# Altium footprint library AltiumWorkshopBasic.PcbLib: 15 footprints
Each footprint in its own frame and in the unit in brackets; x right, y up, seen from the top. Pads: shape width x height; smd on the part's side, far side on the other; paste and mask are expansions set on the pad; w line width, h text height; cw(c..) or ccw(c..) is an arc to the next point about the centre after c.
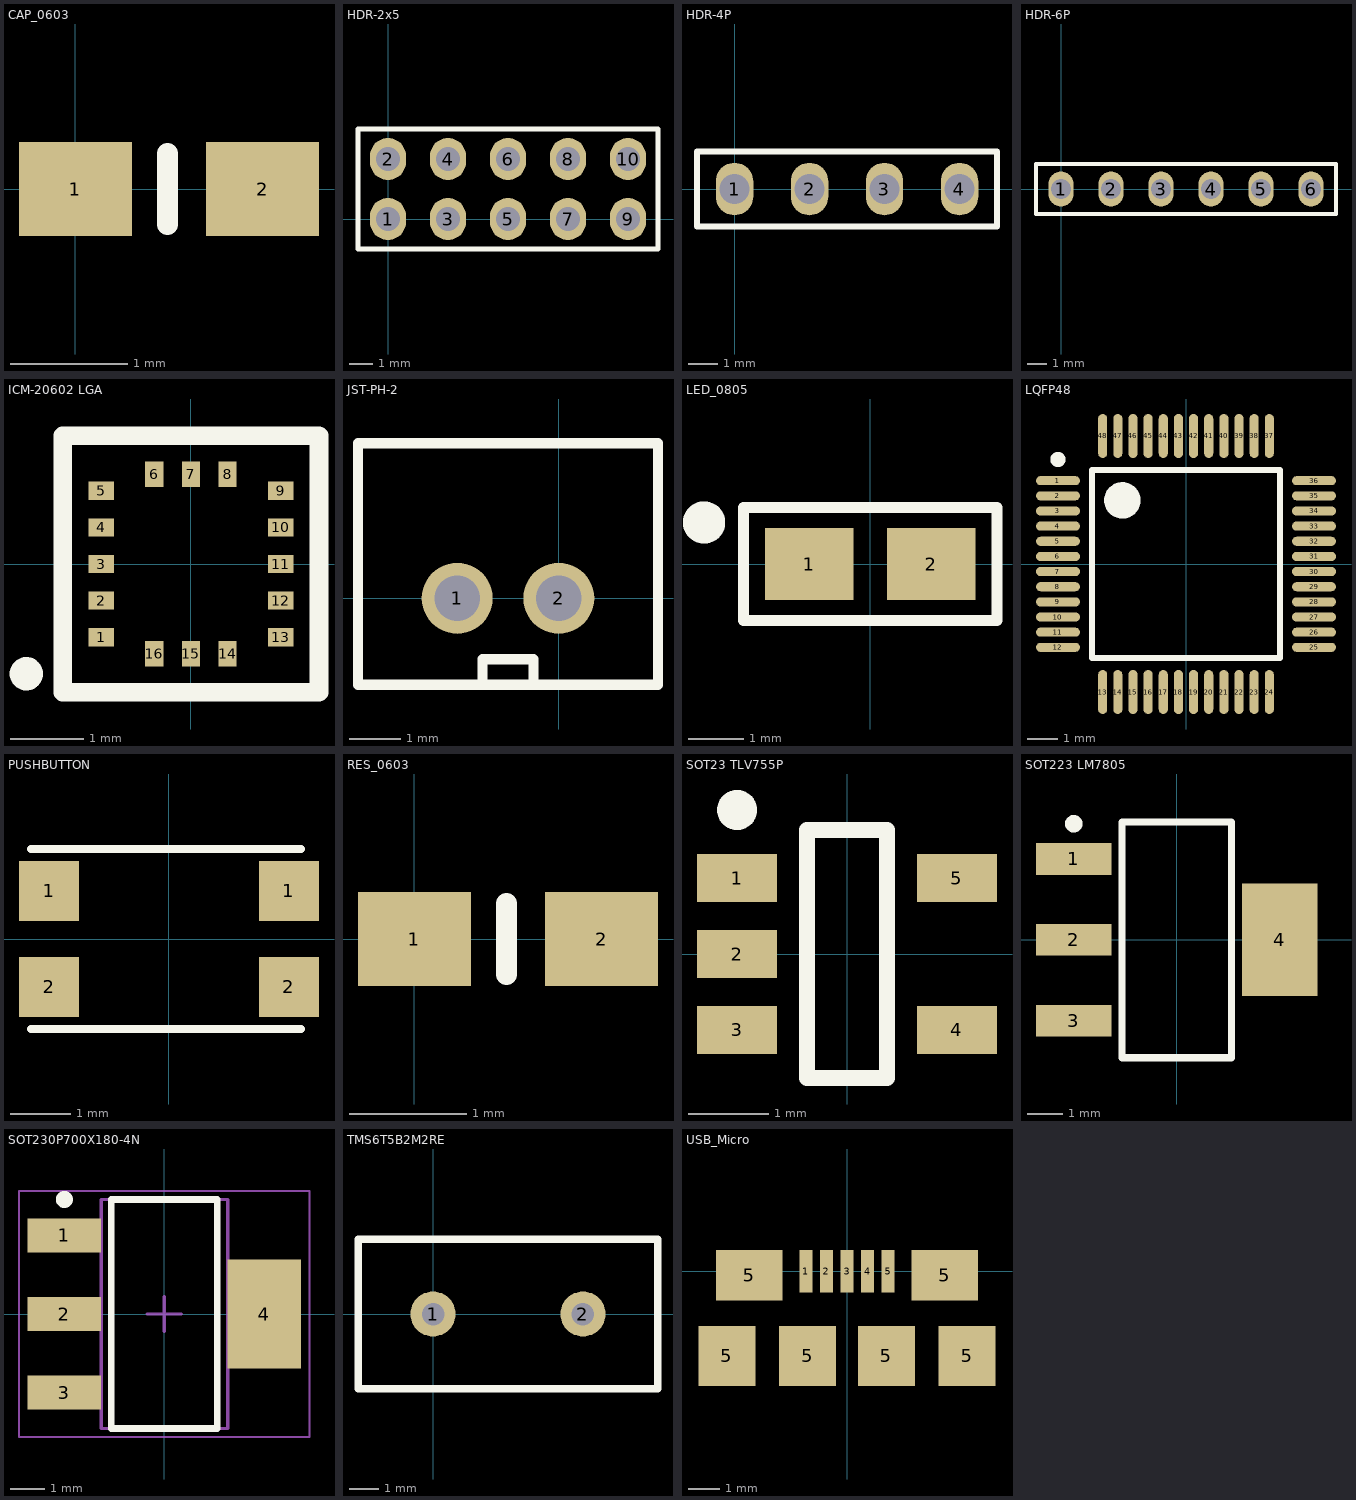
[diagram p0: the footprints below, top view; thin cyan lines are the x and y axes]

## CAP_0603 [mil]
pads (2):
  rect 38x31.5 smd: 1(0,0) 2(63,0)
Top Overlay:
  lines w7: 31,-12 31,12
3D body: height 25, standoff 0, extent 54.13,-15.75 64.96,15.75
3D body: height 25, standoff 0, extent -2.95,-15.75 7.87,15.75
3D body: height 25, standoff 0, extent 7.87,-15.75 54.13,15.75

## HDR-2x5 [mil]
pads (10):
  oval 60x70 hole 40: 1(0,0) 2(0,100) 3(100,0) 4(100,100) 5(200,0) 6(200,100) 7(300,0) 8(300,100) 9(400,0) 10(400,100)
Top Overlay:
  lines w8: -50,-50 450,-50 450,150 -50,150 -50,-50

## HDR-4P [mil]
pads (4):
  oval 50x70 hole 40: 1(0,0) 2(100,0) 3(200,0) 4(300,0)
Top Overlay:
  lines w8: -50,-50 350,-50 350,50 -50,50 -50,-50

## HDR-6P [mil]
pads (6):
  oval 50x70 hole 40: 1(0,0) 2(100,0) 3(200,0) 4(300,0) 5(400,0) 6(500,0)
Top Overlay:
  lines w8: -50,-50 -50,50 550,50 550,-50 -50,-50

## ICM-20602 LGA [mm] "LGA for ICM-20602"
height 0.75
pads (16):
  rect 0.35x0.25 smd: 1(-1.225,-1) 2(-1.225,-0.5) 3(-1.225,0) 4(-1.225,0.5) 5(-1.225,1) 9(1.225,1) 10(1.225,0.5) 11(1.225,0) 12(1.225,-0.5) 13(1.225,-1)
  rect 0.25x0.35 smd: 6(-0.5,1.225) 7(0,1.225) 8(0.5,1.225) 14(0.5,-1.225) 15(0,-1.225) 16(-0.5,-1.225)
Top Overlay:
  circle w0.254: c-2.25,-1.5 r0.1
  lines w0.254: -1.75,-1.75 1.25,-1.75 1.75,-1.75 1.75,1.75 -1.75,1.75 -1.75,-1.75

## JST-PH-2 [mil] "JST 2 Pin Connector"
pads (2):
  round 55 hole 35: 1(-78.74,0) 2(0,0)
Top Overlay:
  lines w8: -59.06,-66.93 -59.06,-47.24 -27.56,-47.24 -19.68,-47.24 -19.68,-66.93 ; -155.51,-66.93 -155.51,120 76.77,120 76.77,-66.93 -155.51,-66.93
3D body "JST - PH - Thru (V) - 2Pin - 2.00mm.stp": height 232, standoff -120, extent -155.37,-66.92 75.37,117.08

## LED_0805 [mm]
pads (2):
  rect 1.6x1.3 smd: 1(-1.1,0) 2(1.1,0)
Top Overlay:
  circle w0.508: c-3,0.75 r0.127
  lines w0.2: -2.286,-1.016 2.286,-1.016 2.286,1.016 -2.286,1.016 -2.286,-1.016
3D body: height 0.5, standoff 0, extent -1.05,-0.65 -0.65,0.65
3D body: height 0.5, standoff 0, extent 0.65,-0.65 1.05,0.65
3D body: height 0.5, standoff 0, extent -0.65,-0.65 0.65,0.65

## LQFP48 [mm] "STM32 F103CxTx LQFP48"
height 1.6
pads (48):
  oval 1.45x0.3 smd: 1(-4.225,2.75) 2(-4.225,2.25) 3(-4.225,1.75) 4(-4.225,1.25) 5(-4.225,0.75) 6(-4.225,0.25) 7(-4.225,-0.25) 8(-4.225,-0.75) 9(-4.225,-1.25) 10(-4.225,-1.75) 11(-4.225,-2.25) 12(-4.225,-2.75) 25(4.225,-2.75) 26(4.225,-2.25) 27(4.225,-1.75) 28(4.225,-1.25) 29(4.225,-0.75) 30(4.225,-0.25) 31(4.225,0.25) 32(4.225,0.75) 33(4.225,1.25) 34(4.225,1.75) 35(4.225,2.25) 36(4.225,2.75)
  oval 0.3x1.45 smd: 13(-2.75,-4.225) 14(-2.25,-4.225) 15(-1.75,-4.225) 16(-1.25,-4.225) 17(-0.75,-4.225) 18(-0.25,-4.225) 19(0.25,-4.225) 20(0.75,-4.225) 21(1.25,-4.225) 22(1.75,-4.225) 23(2.25,-4.225) 24(2.75,-4.225) 37(2.75,4.225) 38(2.25,4.225) 39(1.75,4.225) 40(1.25,4.225) 41(0.75,4.225) 42(0.25,4.225) 43(-0.25,4.225) 44(-0.75,4.225) 45(-1.25,4.225) 46(-1.75,4.225) 47(-2.25,4.225) 48(-2.75,4.225)
Top Overlay:
  circle w0.6: c-2.1,2.1 r0.3
  circle w0.25: c-4.225,3.45 r0.125
  lines w0.2: -3.1,-3.1 3.1,-3.1 3.1,3.1 -3.1,3.1 -3.1,-3.1
3D body "LQFP48.step": height 1.6, standoff 0, extent -4.5,-4.5 4.5,4.5

## PUSHBUTTON [mm] "C&K KMR7"
pads (4):
  rect 1x1 smd: 1(-2,0.8) 1(2,0.8) 2(-2,-0.8) 2(2,-0.8)
Top Overlay:
  lines w0.127: -2.3,-1.5 2.2,-1.5 ; -2.3,1.5 2.2,1.5

## RES_0603 [mil]
pads (2):
  rect 38x31.5 smd: 1(0,0) 2(63,0)
Top Overlay:
  lines w7: 31,-12 31,12
3D body: height 15, standoff 0, extent 7.87,-15.75 54.13,15.75
3D body: height 15, standoff 0, extent -2.95,-15.75 7.87,15.75
3D body: height 15, standoff 0, extent 54.13,-15.75 64.96,15.75

## SOT23 TLV755P [mm] "5-Lead SOT23 for TLV755P"
height 1.45
pads (5):
  rect 1x0.6 smd: 1(-1.375,0.95) 2(-1.375,0) 3(-1.375,-0.95) 4(1.375,-0.95) 5(1.375,0.95)
Top Overlay:
  circle w0.25: c-1.375,1.8 r0.125
  lines w0.2: -0.5,-1.55 0.5,-1.55 0.5,1.55 -0.5,1.55 -0.5,-1.55
3D body "SOT23 TLV755P.step": height 1.45, standoff 0, extent -1.5,-1.525 1.5,1.525

## SOT223 LM7805 [mm] "SOT223, 4-Leads, LM7805"
height 1.8
pads (4):
  rect 2.15x0.9 smd: 1(-2.925,2.3) 2(-2.925,0) 3(-2.925,-2.3)
  rect 2.15x3.2 smd: 4(2.925,0)
Top Overlay:
  circle w0.25: c-2.925,3.3 r0.125
  lines w0.2: -1.55,-3.35 1.55,-3.35 1.55,3.35 -1.55,3.35 -1.55,-3.35
3D body "SOT223 LM7805.step": height 1.8, standoff 0, extent -3.5,-3.35 3.5,3.35

## SOT230P700X180-4N [mm] "SOT223, 4-Leads, Body 6.50x7.00mm (avg), Pitch 2.30mm, IPC Medium Density"
height 1.8
pads (4):
  rect 2.15x1 smd: 1(-2.925,2.3) 2(-2.925,0) 3(-2.925,-2.3)
  rect 2.15x3.2 smd: 4(2.925,0)
Top Overlay:
  circle w0.25: c-2.925,3.35 r0.125
  lines w0.2: -1.55,-3.35 -1.55,3.35 1.55,3.35 1.55,-3.35 -1.55,-3.35
Mechanical 13:
  lines w0.1: -1.85,-3.35 -1.85,3.35 1.85,3.35 1.85,-3.35 -1.85,-3.35
Mechanical 15:
  lines w0.05: -4.25,-3.6 -4.25,3.6 4.25,3.6 4.25,-3.6 -4.25,-3.6
  lines w0.1: -0.5,0 0.5,0 ; 0,-0.5 0,0.5
3D body: height 1.8, standoff 0.02, extent -1.85,-3.35 1.85,3.35

## TMS6T5B2M2RE [mil] "Toggle Switch"
pads (2):
  round 60 hole 30: 1(0,0) 2(200,0)
Top Overlay:
  lines w10: -100,-100 300,-100 300,100 -100,100 -100,-100

## USB_Micro [mm]
pads (11):
  rect 0.4x1.35 smd: 1(-1.3,0) 2(-0.65,0) 3(0,0) 4(0.65,0) 5(1.3,0)
  rect 1.8x1.9 smd: 5(-3.8,-2.675) 5(-1.25,-2.675) 5(1.25,-2.675) 5(3.8,-2.675)
  rect 2.1x1.6 smd: 5(-3.1,-0.125) 5(3.1,-0.125)
3D body "usb.stp": height 3.09, standoff 0.08, extent -3.957,-5.01 3.955,0.65